# Altium footprint library Switches.PcbLib: 11 footprints
Each footprint in its own frame and in the unit in brackets; x right, y up, seen from the top. Pads: shape width x height; smd on the part's side, far side on the other; paste and mask are expansions set on the pad; w line width, h text height; cw(c..) or ccw(c..) is an arc to the next point about the centre after c.
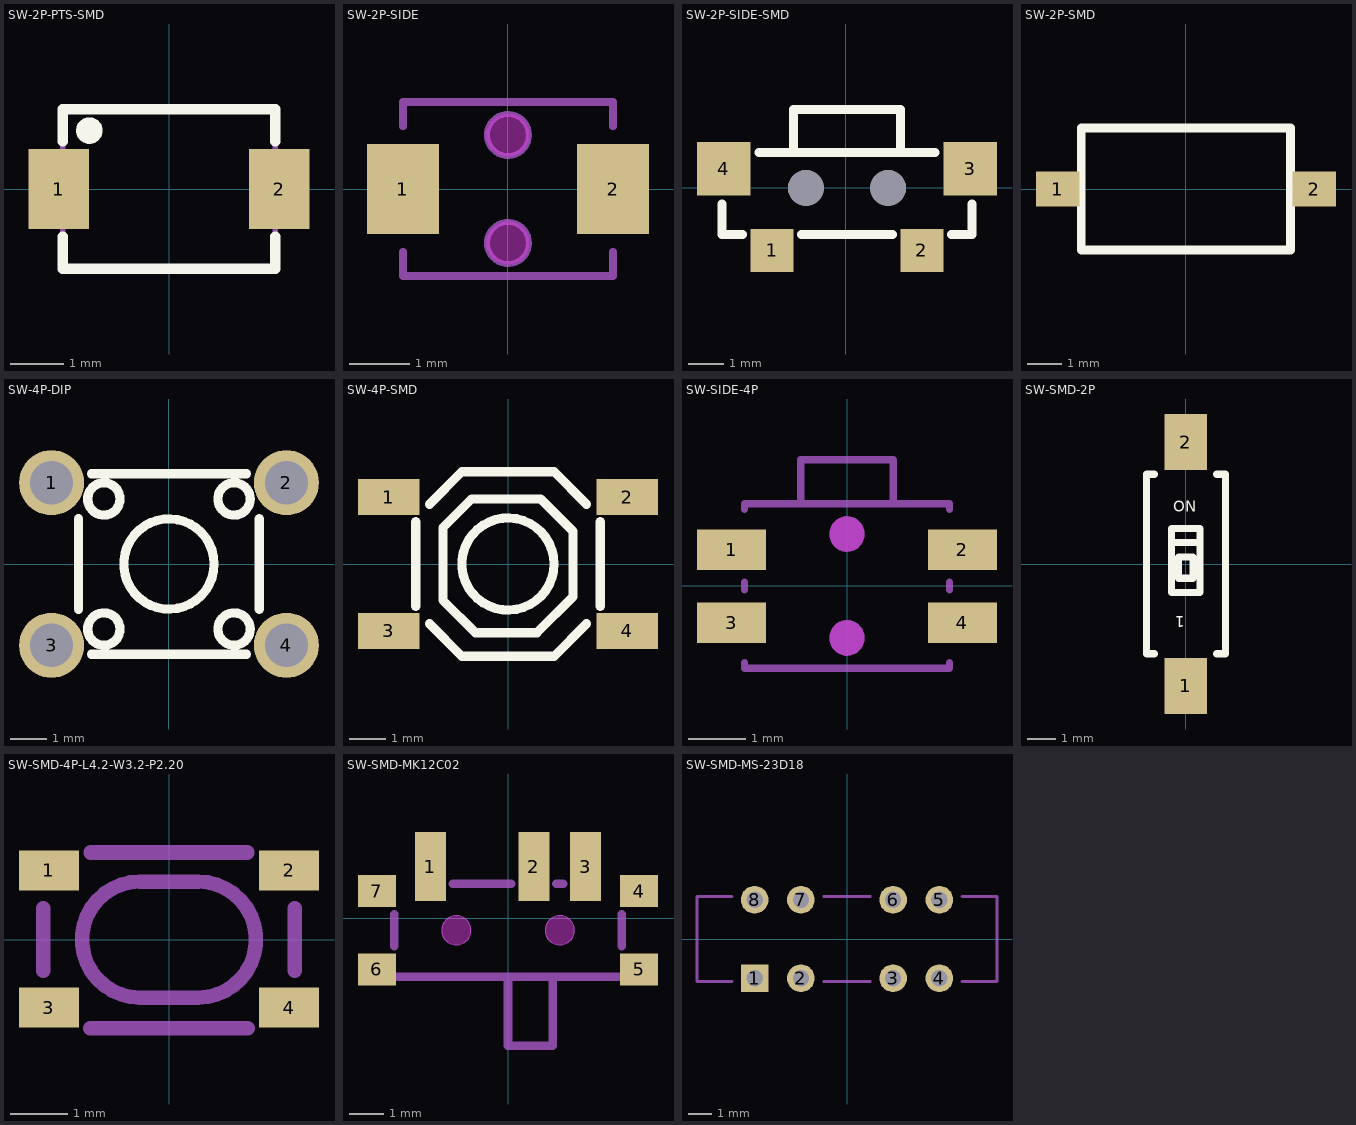
[diagram p0: the footprints below, top view; thin cyan lines are the x and y axes]

## SW-2P-PTS-SMD [mm] "SWITCH-2P-PTS-SMD"
height 2
pads (4):
  rect 1.143x1.5 smd: 1(-2.075,0) 2(2.075,0)
  round 0 all layers, no hole paste-2539.97 mask-2.54: MH1(0,0.9) MH2(0,-0.9)
Top Overlay:
  circle w0.25: c-1.5,1.1 r0.125
  lines w0.2: -2,-0.9 -2,-1.5 2,-1.5 2,-0.9 ; -2,0.9 -2,1.5 2,1.5 2,0.9
Mechanical 13:
  lines w0.1: -2,-1.5 -2,1.5 2,1.5 2,-1.5 -2,-1.5
3D body "SMT Tactile Switch PTS-820.STEP": height 2.05, standoff -0.5, extent -2.25,-1.55 2.25,1.55

## SW-2P-SIDE [mm]
pads (2):
  rect 1.2x1.5 smd: 1(-1.75,0) 2(1.75,0)
Keep-Out Layer:
  board cut-out: -0.35,-0.9 -0.35,-0.97 -0.297,-1.098 -0.198,-1.197 -0.07,-1.25 0,-1.25 0.07,-1.25 0.198,-1.197 0.297,-1.098 0.35,-0.97 0.35,-0.9 0.35,-0.83 0.297,-0.702 0.198,-0.603 0.07,-0.55 0,-0.55 -0.07,-0.55 -0.198,-0.603 -0.297,-0.702 -0.35,-0.83
  board cut-out: -0.35,0.9 -0.35,0.83 -0.297,0.702 -0.198,0.603 -0.07,0.55 0,0.55 0.07,0.55 0.198,0.603 0.297,0.702 0.35,0.83 0.35,0.9 0.35,0.97 0.297,1.098 0.198,1.197 0.07,1.25 0,1.25 -0.07,1.25 -0.198,1.197 -0.297,1.098 -0.35,0.97
Mechanical 1:
  circle w0.1: c0,0.9 r0.35
  circle w0.1: c0,-0.9 r0.35
Mechanical 15:
  lines w0.127: -1.75,-1.044 -1.75,-1.45 1.75,-1.45 1.75,-1.044 ; -1.75,1.044 -1.75,1.45 1.75,1.45 1.75,1.044

## SW-2P-SIDE-SMD [mm] "SWITCH-2P-SIDE-PRESS-SMD"
pads (6):
  rect 1.2x1.2 smd: 1(-2.07,-1.76) 2(2.129,-1.76)
  rect 1.5x1.5 smd: 3(3.479,0.526) 4(-3.42,0.526)
  round 1 hole 1 unplated mask+0.102: ""(-1.121,-0.01) ""(1.18,-0.01)
Top Overlay:
  lines w0.254: -3.47,-0.455 -3.47,-1.317 -2.902,-1.317 ; -2.44,0.983 2.498,0.983 ; -1.47,0.983 -1.47,2.183 1.53,2.183 1.53,1.133 ; -1.239,-1.317 1.298,-1.317 ; 2.961,-1.317 3.529,-1.317 3.529,-0.455
Mechanical 15:
  circle w0.35: c-1.121,-0.01 r0.175
  circle w0.35: c1.18,-0.01 r0.175
  region: -1.57,0.983 -1.57,2.183 -1.47,2.283 1.53,2.283 1.63,2.183 1.63,1.033 1.48,1.033 1.48,2.133 -1.42,2.133 -1.42,0.983
3D body "User Library-TACT SWITCH KAN3543.step": height 3.5, standoff -1.2, extent -3.75,-2.03 3.85,1.87

## SW-2P-SMD [mm] "SWITCH_2P_SMD"
pads (2):
  rect 1.27x1.016 smd mask+0.051: 1(-3.735,0) 2(3.735,0)
Top Overlay:
  lines w0.254: -3.049,-1.778 3.047,-1.778 3.047,1.778 -3.049,1.778 -3.049,-1.778
3D body "TSW SMD-3x6x2.5.STEP": height 2.59, standoff -0.03, extent -4,-1.75 4,1.75

## SW-4P-DIP [mil] "SWITCH-4P-DIP"
pads (4):
  round 70.9 hole 47.2 mask+2: 1(-127.9,88.6) 2(128,88.6) 3(-127.9,-88.6) 4(128,-88.6)
Top Overlay:
  circle w10: c70.9,-70.9 r17.6
  circle w10: c-70.9,-70.9 r17.6
  circle w10: c-70.9,70.9 r17.6
  circle w10: c70.9,70.9 r17.6
  circle w10: c0,0 r49.2
  lines w10: -98.4,-49.2 -98.4,49.2 ; -84.5,-98.4 84.5,-98.4 ; -84.5,98.4 84.5,98.4 ; 98.4,-49.2 98.4,49.2
3D body "User Library-KLS7-TS6601-7.STEP": height 281.2, standoff -132.21, extent -155.14,-118.11 155.91,118.11

## SW-4P-SMD [mm] "SW-4P-SMD"
pads (4):
  rect 1.7x1 smd: 1(-3.3,1.849) 2(3.3,1.85) 3(-3.3,-1.85) 4(3.3,-1.85)
Top Overlay:
  circle w0.254: c0,0 r1.275
  lines w0.254: -2.55,-1.168 -2.55,1.168 ; -2.17,-1.655 -1.275,-2.55 1.275,-2.55 2.17,-1.655 ; -2.17,1.655 -1.275,2.55 1.275,2.55 2.17,1.655 ; 2.55,-1.168 2.55,1.168 ; -1.801,-0.998 -1.801,1.001 -1.001,1.801 0.899,1.801 1.801,0.899 1.801,-0.899 0.8,-1.9 -0.899,-1.9 -1.801,-0.998
3D body "User Library-4x4_SMD_Switch.step": height 1.5, standoff 0, extent -3.2,-2.6 3.2,2.6

## SW-SIDE-4P [mm] "侧边摘银"
pads (4):
  rect 1.2x0.7 smd: 1(-2,0.63) 2(2,0.63) 3(-2,-0.64) 4(2,-0.64)
Keep-Out Layer:
  board cut-out: 0,0.6 -0.06,0.6 -0.17,0.646 -0.254,0.73 -0.3,0.84 -0.3,0.9 -0.3,0.96 -0.254,1.07 -0.17,1.154 -0.06,1.2 0,1.2 0.06,1.2 0.17,1.154 0.254,1.07 0.3,0.96 0.3,0.9 0.3,0.84 0.254,0.73 0.17,0.646 0.06,0.6
  board cut-out: 0,-1.2 -0.06,-1.2 -0.17,-1.154 -0.254,-1.07 -0.3,-0.96 -0.3,-0.9 -0.3,-0.84 -0.254,-0.73 -0.17,-0.646 -0.06,-0.6 0,-0.6 0.06,-0.6 0.17,-0.646 0.254,-0.73 0.3,-0.84 0.3,-0.9 0.3,-0.96 0.254,-1.07 0.17,-1.154 0.06,-1.2
Mechanical 1:
  circle w0.005: c0,-0.9 r0.3
  circle w0.005: c0,0.9 r0.3
Mechanical 6:
  circle w0.3: c0,0.9 r0.15
  circle w0.3: c0,-0.9 r0.15
Mechanical 15:
  lines w0.127: -1.778,-1.331 -1.778,-1.424 1.778,-1.424 1.778,-1.331 ; -1.778,-0.069 -1.778,0.069 ; -1.778,1.331 -1.778,1.424 1.778,1.424 1.778,1.331 ; -0.8,1.424 -0.8,2.186 0.8,2.186 0.8,1.424 ; 1.778,-0.069 1.778,0.069
3D body "SMD.step": height 1.3, standoff -0.5, extent -2.425,-1.4 2.425,2.2

## SW-SMD-2P [mm] "L6.4-W4.0-P9.40-LS10.0"
pads (2):
  rect 1.5x2 smd mask+0.051: 1(0,-4.349) 2(0,4.349)
Top Overlay:
  lines w0.254: -1.107,-3.2 -1.4,-3.2 -1.4,3.2 -1.107,3.2 ; -0.508,0.762 0.508,0.762 ; 1.107,-3.2 1.42,-3.2 1.42,3.2 1.107,3.2 ; -0.508,-1.016 -0.508,1.27 0.508,1.27 0.508,-1.016 -0.508,-1.016 ; -0.254,-0.508 -0.254,0.254 0.254,0.254 0.254,-0.508 -0.254,-0.508
  text "ON" at -0.45,1.862 h0.39
  text "1" at -0.037,-1.87 h0.39
3D body "User Library-TO-01.step": height 4.36, standoff 0.01, extent -1.26,-4.65 1.28,4.65

## SW-SMD-4P-L4.2-W3.2-P2.20 [mm] "L4.2-W3.2-P2.20"
pads (4):
  rect 1.05x0.7 smd paste+0 mask+0.051: 1(-2.1,1.21) 2(2.1,1.21) 3(-2.1,-1.19) 4(2.1,-1.19)
Mechanical 15:
  lines w0.254: -2.2,-0.544 -2.2,0.544 ; -1.381,-1.55 1.381,-1.55 ; -1.366,1.524 1.366,1.524 ; 2.2,-0.544 2.2,0.544 ; -0.508,-1.016 cw(c-0.508,0) -0.508,1.016 0.508,1.016 cw(c0.508,0) 0.508,-1.016 -0.508,-1.016
3D body "SW3x4_L.STEP": height 2.45, standoff -0.05, extent -2.305,-1.595 2.296,1.612

## SW-SMD-MK12C02 [mm] "Switch"
pads (7):
  rect 0.9x2 smd paste+0 mask+0.051: 1(-2.25,1.491) 2(0.75,1.491) 3(2.25,1.491)
  rect 1.1x0.93 smd paste+0 mask+0.051: 4(3.8,0.779) 5(3.8,-1.491) 6(-3.8,-1.491) 7(-3.8,0.779)
Keep-Out Layer:
  board cut-out: 1.925,-0.356 1.925,-0.271 1.86,-0.115 1.741,0.005 1.585,0.069 1.415,0.069 1.259,0.005 1.14,-0.115 1.075,-0.271 1.075,-0.356 1.075,-0.44 1.14,-0.596 1.259,-0.716 1.415,-0.781 1.585,-0.781 1.741,-0.716 1.86,-0.596 1.925,-0.44
  board cut-out: -1.075,-0.356 -1.075,-0.271 -1.14,-0.115 -1.259,0.005 -1.415,0.069 -1.585,0.069 -1.741,0.005 -1.86,-0.115 -1.925,-0.271 -1.925,-0.356 -1.925,-0.44 -1.86,-0.596 -1.741,-0.716 -1.585,-0.781 -1.415,-0.781 -1.259,-0.716 -1.14,-0.596 -1.075,-0.44
Mechanical 1:
  circle w0.005: c1.5,-0.356 r0.425
  circle w0.005: c-1.5,-0.356 r0.425
Mechanical 15:
  lines w0.254: -3.3,-0.818 -3.3,0.106 ; -3.2,-1.706 3.2,-1.706 ; -1.592,0.994 0.092,0.994 ; 0,-1.706 0,-3.706 1.3,-3.706 1.3,-1.706 ; 1.408,0.994 1.592,0.994 ; 3.3,-0.818 3.3,0.106
3D body "User Library-Slide-SW_SPDT.step": height 1.5, standoff -0.45, extent -3.87,-3.246 4.03,2.149

## SW-SMD-MS-23D18 [mm] "SWITCH"
pads (8):
  rect 1.2x1.2 hole 0.7 paste-2539.97 mask+0.05: 1(-4,-1.7)
  round 1.2 hole 0.7 paste-2539.97 mask+0.05: 2(-2,-1.7) 3(2,-1.7) 4(4,-1.7) 5(4,1.7) 6(2,1.7) 7(-2,1.7) 8(-4,1.7)
Mechanical 15:
  lines w0.128: -4.992,-1.84 -6.5,-1.84 -6.5,1.85 -4.992,1.85 ; -1.008,-1.85 1.008,-1.85 ; -1.008,1.85 1.008,1.85 ; 4.992,-1.84 6.5,-1.84 6.5,1.85 4.992,1.85
3D body "插件.STEP": height 5.5, standoff -3.1, extent -6.5,-1.85 6.5,1.85